# EAGLE library part FAN7385 (library fan7385)
edit this description Auto generated by make-symbol-device-package-bsdl.ulp Rev. 43 Source:
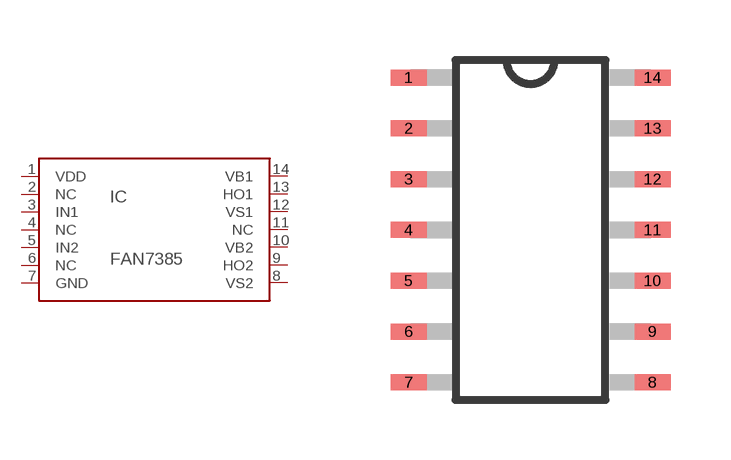
[diagram p0: symbol with the pads of SOT14; footprint SOT14]

Designator prefix IC

## FAN7385  [SOT14]
1  VDD  pwr
2  NC  nc
3  IN1  in
4  NC  nc
5  IN2  in
6  NC  nc
7  GND  pwr
8  VS2  in
9  HO2  out
10  VB2  in
11  NC  nc
12  VS1  in
13  HO1  out
14  VB1  in

## Footprint SOT14 (pad centres in mm)
SOT14 Auto generated by make-symbol-device-package-bsdl.ulp Rev. 43
smd 0.9 x 0.4: 1 -3.05,3.81; 2 -3.05,2.54; 3 -3.05,1.27; 4 -3.05,0; 5 -3.05,-1.27; 6 -3.05,-2.54; 7 -3.05,-3.81; 8 3.05,-3.81; 9 3.05,-2.54; 10 3.05,-1.27; 11 3.05,0; 12 3.05,1.27; 13 3.05,2.54; 14 3.05,3.81